# Altium footprint library Kondensator_DIP.PcbLib: 221 footprints (part 6 of 14)
Each footprint in its own frame and in the unit in brackets; x right, y up, seen from the top. Pads: shape width x height; smd on the part's side, far side on the other; paste and mask are expansions set on the pad; w line width, h text height; cw(c..) or ccw(c..) is an arc to the next point about the centre after c.
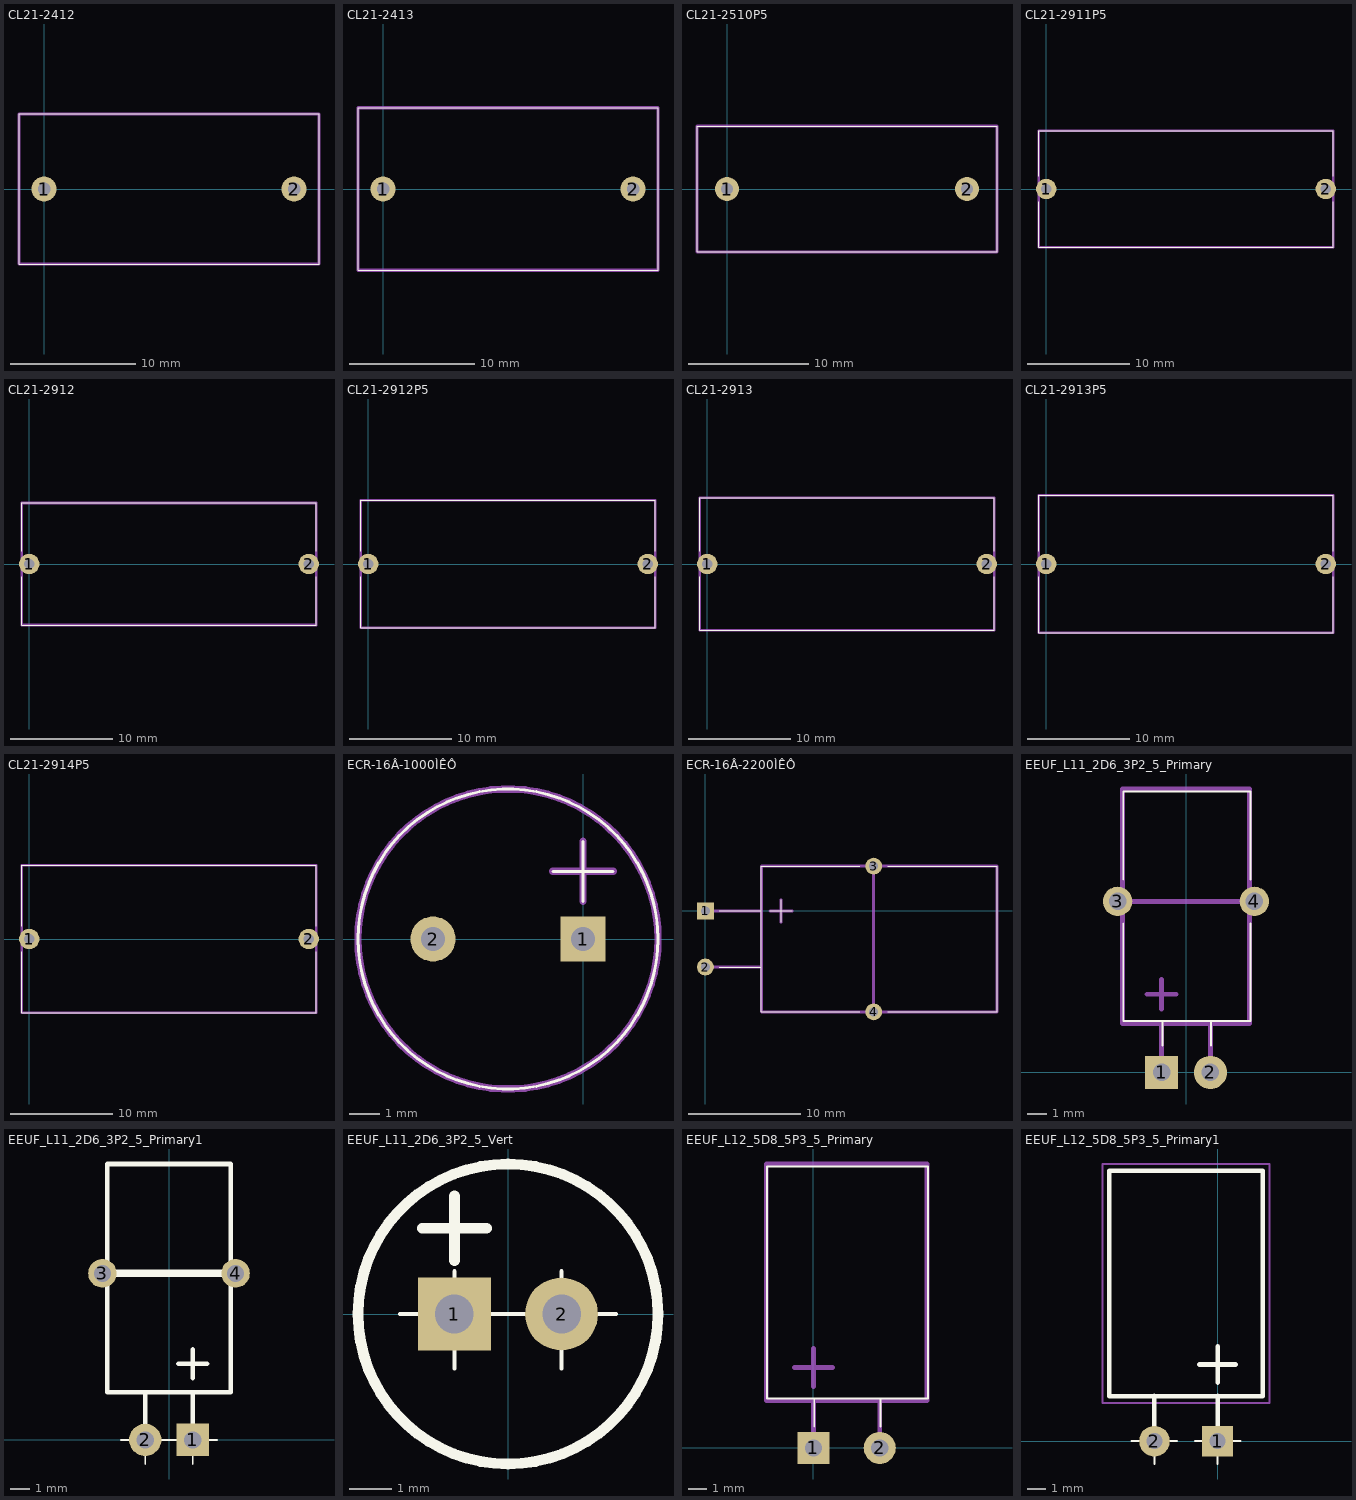
[diagram p5: the footprints below, top view; thin cyan lines are the x and y axes]

## CL21-2412 [mm]
pads (2):
  round 2 hole 1: 1(0,0) 2(20,0)
Top Overlay:
  lines w0.1: -2,-6 22,-6 22,6 -2,6 -2,-6
Mechanical 1:
  lines w0.25: -2,-6 22,-6 22,6 -2,6 -2,-6

## CL21-2413 [mm]
pads (2):
  round 2 hole 1: 1(0,0) 2(20,0)
Top Overlay:
  lines w0.1: -2,-6.5 22,-6.5 22,6.5 -2,6.5 -2,-6.5
Mechanical 1:
  lines w0.25: -2,-6.5 22,-6.5 22,6.5 -2,6.5 -2,-6.5

## CL21-2510P5 [mm]
pads (2):
  round 2 hole 1: 1(0,0) 2(20,0)
Top Overlay:
  lines w0.1: -2.5,-5.25 22.5,-5.25 22.5,5.25 -2.5,5.25 -2.5,-5.25
Mechanical 1:
  lines w0.25: -2.5,-5.25 22.5,-5.25 22.5,5.25 -2.5,5.25 -2.5,-5.25

## CL21-2911P5 [mm]
pads (2):
  round 2 hole 1: 1(0,0) 2(27.5,0)
Top Overlay:
  lines w0.1: -0.75,-1.25 -0.75,-5.75 28.25,-5.75 28.25,-1.25 ; -0.75,1.25 -0.75,5.75 28.25,5.75 28.25,1.25
Mechanical 1:
  lines w0.25: -0.75,-5.75 28.25,-5.75 28.25,5.75 -0.75,5.75 -0.75,-5.75

## CL21-2912 [mm]
pads (2):
  round 2 hole 1: 1(0,0) 2(27.5,0)
Top Overlay:
  lines w0.1: -0.75,-1.25 -0.75,-6 28.25,-6 28.25,-1.25 ; -0.75,1.25 -0.75,6 28.25,6 28.25,1.25
Mechanical 1:
  lines w0.25: -0.75,-6 28.25,-6 28.25,6 -0.75,6 -0.75,-6

## CL21-2912P5 [mm]
pads (2):
  round 2 hole 1: 1(0,0) 2(27.5,0)
Top Overlay:
  lines w0.1: -0.75,-1.25 -0.75,-6.25 28.25,-6.25 28.25,-1.25 ; -0.75,1.25 -0.75,6.25 28.25,6.25 28.25,1.25
Mechanical 1:
  lines w0.25: -0.75,-6.25 28.25,-6.25 28.25,6.25 -0.75,6.25 -0.75,-6.25

## CL21-2913 [mm]
pads (2):
  round 2 hole 1: 1(0,0) 2(27.5,0)
Top Overlay:
  lines w0.1: -0.75,-1.25 -0.75,-6.5 28.25,-6.5 28.25,-1.25 ; -0.75,1.25 -0.75,6.5 28.25,6.5 28.25,1.25
Mechanical 1:
  lines w0.25: -0.75,-6.5 28.25,-6.5 28.25,6.5 -0.75,6.5 -0.75,-6.5

## CL21-2913P5 [mm]
pads (2):
  round 2 hole 1: 1(0,0) 2(27.5,0)
Top Overlay:
  lines w0.1: -0.75,-1.25 -0.75,-6.75 28.25,-6.75 28.25,-1.25 ; -0.75,1.25 -0.75,6.75 28.25,6.75 28.25,1.25
Mechanical 1:
  lines w0.25: -0.75,-6.75 28.25,-6.75 28.25,6.75 -0.75,6.75 -0.75,-6.75

## CL21-2914P5 [mm]
pads (2):
  round 2 hole 1: 1(0,0) 2(27.5,0)
Top Overlay:
  lines w0.1: -0.75,-1.25 -0.75,-7.25 28.25,-7.25 28.25,-1.25 ; -0.75,1.25 -0.75,7.25 28.25,7.25 28.25,1.25
Mechanical 1:
  lines w0.25: -0.75,-7.25 28.25,-7.25 28.25,7.25 -0.75,7.25 -0.75,-7.25

## ECR-16Â-1000ÌÊÔ [mm]
pads (2):
  rect 1.5x1.5 hole 0.8: 1(0,0)
  round 1.5 hole 0.8: 2(-5,0)
Top Overlay:
  lines w0.1: -1,2.25 1,2.25 ; 0,1.25 0,2.25 0,3.25 ; -7.5,0 cw(c-2.5,0) 2.5,0 cw(c-2.5,0) -7.5,0
Mechanical 1:
  lines w0.25: -1,2.25 1,2.25 ; 0,1.25 0,3.25 ; -7.5,0 cw(c-2.5,0) 2.5,0 cw(c-2.5,0) -7.5,0

## ECR-16Â-2200ÌÊÔ [mm]
pads (4):
  rect 1.5x1.5 hole 0.8: 1(0,0)
  round 1.5 hole 0.8: 2(0,-5) 3(15,4) 4(15,-9)
Top Overlay:
  lines w0.1: 1.25,-5 5,-5 ; 1.25,0 5,0 ; 5.75,0 7.75,0 ; 6.75,-1 6.75,1 ; 13.75,-9 5,-9 5,4 13.75,4 ; 16.25,-9 26,-9 26,4 16.25,4
Mechanical 1:
  lines w0.25: 0,-5 5,-5 ; 0,0 5,0 ; 5.75,0 7.75,0 ; 6.75,-1 6.75,0 6.75,1 ; 15,-9 15,4 ; 5,-9 26,-9 26,4 5,4 5,-9

## EEUF_L11_2D6_3P2_5_Primary [mm]
pads (4):
  rect 1.7x1.7 hole 0.9: 1(-1.25,0)
  round 1.7 hole 0.9: 2(1.25,0)
  round 1.5 hole 0.9: 3(-3.5,8.75) 4(3.5,8.75)
Top Overlay:
  lines w0.1: -3.21,7.62 -3.21,2.62 3.29,2.62 3.29,7.62 ; -3.21,9.87 -3.21,14.37 3.29,14.37 3.29,9.87 ; -1.21,1.37 -1.21,2.62 ; 1.29,1.37 1.29,2.62
Mechanical 1:
  lines w0.25: -3.5,8.75 3.5,8.75 ; -2,4 -0.5,4 ; -1.25,0 -1.25,2.5 ; -1.25,3.25 -1.25,4.75 ; 1.25,0 1.25,2.5 ; -3.25,2.5 3.25,2.5 3.25,14.5 -3.25,14.5 -3.25,2.5

## EEUF_L11_2D6_3P2_5_Primary1 [mm]
pads (4):
  rect 1.7x1.7 hole 0.9: 1(1.25,0)
  round 1.7 hole 0.9: 2(-1.25,0)
  round 1.5 hole 0.9: 3(-3.5,8.75) 4(3.5,8.75)
Top Overlay:
  lines w0.1: -2.52,0 0.02,0 ; -1.25,-1.27 -1.25,0 ; -0.02,0 2.52,0 ; 1.25,-1.27 1.25,0
  lines w0.254: -1.25,0 -1.25,2.5 ; 0.5,4 2,4 ; 1.25,0 1.25,2.5 ; 1.25,3.25 1.25,4.75 ; -3.25,2.5 3.25,2.5 3.25,14.5 -3.25,14.5 -3.25,2.5
  lines w0.4: -3.5,8.75 3.5,8.75

## EEUF_L11_2D6_3P2_5_Vert [mm]
pads (2):
  rect 1.7x1.7 hole 0.9: 1(-1.25,0)
  round 1.7 hole 0.9: 2(1.25,0)
Top Overlay:
  circle w0.25: c0,0 r3.5
  lines w0.1: -2.52,0 0.02,0 ; -1.25,-1.27 -1.25,1 ; -0.02,0 2.52,0 ; 1.25,-1.27 1.25,1
  lines w0.254: -2,2 -0.5,2 ; -1.25,1.25 -1.25,2.75

## EEUF_L12_5D8_5P3_5_Primary [mm]
pads (2):
  rect 1.7x1.7 hole 0.9: 1(0,0)
  round 1.7 hole 0.9: 2(3.5,0)
Top Overlay:
  lines w0.1: 0.04,1.12 0.04,2.62 ; 3.54,1.12 3.54,2.62 ; -2.46,2.62 6.04,2.62 6.04,14.87 -2.46,14.87 -2.46,2.62
Mechanical 1:
  lines w0.25: -1,4.25 1,4.25 ; 0,0 0,2.5 ; 0,3.25 0,5.25 ; 3.5,0 3.5,2.5 ; -2.5,2.5 -2.5,15 6,15 6,2.5 1.75,2.5 -2.5,2.5

## EEUF_L12_5D8_5P3_5_Primary1 [mm]
pads (2):
  rect 1.7x1.7 hole 0.9: 1(0,0)
  round 1.7 hole 0.9: 2(-3.5,0)
Top Overlay:
  lines w0.1: -4.77,0 -2.23,0 ; -3.5,-1.27 -3.5,0 ; -1.27,0 1.27,0 ; 0,-1.27 0,0
  lines w0.25: -6,2.5 -1.75,2.5 2.5,2.5 2.5,15 -6,15 -6,2.5
  lines w0.254: -3.5,0 -3.5,2.5 ; -1,4.25 1,4.25 ; 0,0 0,2.5 ; 0,3.25 0,5.25
Mechanical 1:
  lines w0.1: -3.5,1.35 -3.5,2.12 ; 0,1.35 0,2.12 ; -6.38,2.12 2.88,2.12 2.88,15.37 -6.38,15.37 -6.38,2.12